# Altium footprint library connectors.PcbLib: 6 footprints
Each footprint in its own frame and in the unit in brackets; x right, y up, seen from the top. Pads: shape width x height; smd on the part's side, far side on the other; paste and mask are expansions set on the pad; w line width, h text height; cw(c..) or ccw(c..) is an arc to the next point about the centre after c.
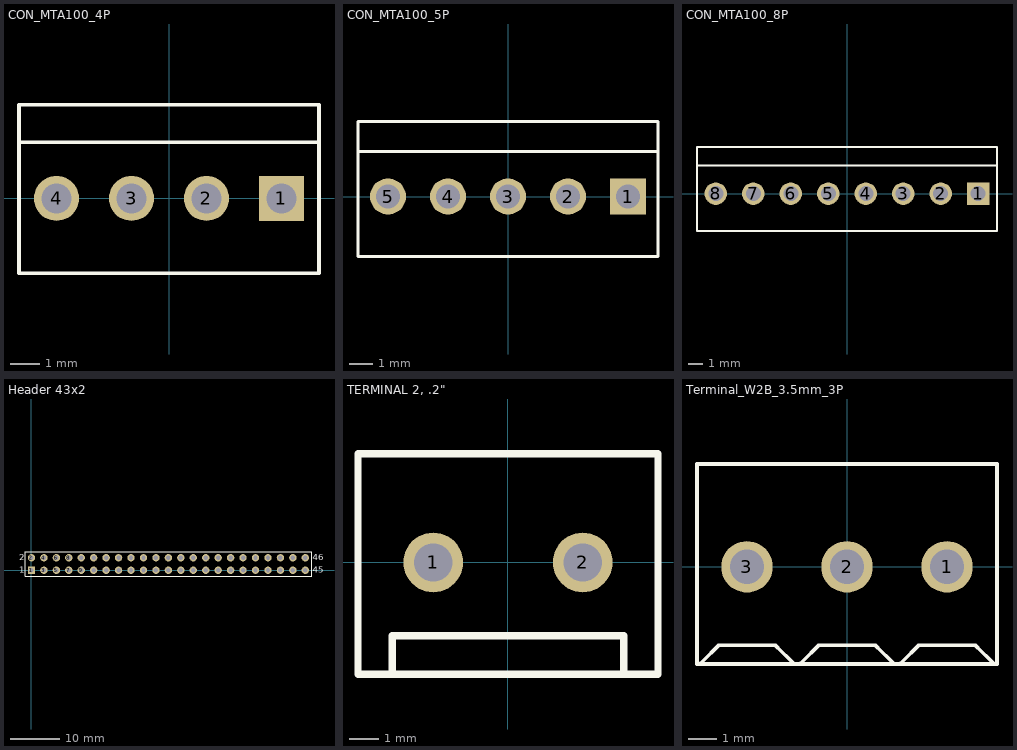
[diagram p0: the footprints below, top view; thin cyan lines are the x and y axes]

## CON_MTA100_4P [mil]
pads (4):
  rect 60x60 hole 40: 1(150,0)
  round 60 hole 40: 2(50,0) 3(-50,0) 4(-150,0)
Top Overlay:
  lines w5: -200,75 200,75 ; -200,-100 -200,125 200,125 200,-100 -200,-100
3D body: height 100, standoff 20, extent 100,-100 200,75
3D body: height 20, standoff 0, extent 100,-100 200,-75
3D body: height 310, standoff 0, extent 100,100 200,125
3D body: height 60, standoff 20, extent 100,75 200,100
3D body: height 395, standoff -140, extent 137.5,-12.5 162.5,12.5
3D body: height 395, standoff -140, extent 37.5,-12.5 62.5,12.5
3D body: height 60, standoff 20, extent 0,75 100,100
3D body: height 310, standoff 0, extent 0,100 100,125
3D body: height 20, standoff 0, extent 0,-100 100,-75
3D body: height 100, standoff 20, extent 0,-100 100,75
3D body: height 395, standoff -140, extent -62.5,-12.5 -37.5,12.5
3D body: height 60, standoff 20, extent -100,75 0,100
3D body: height 310, standoff 0, extent -100,100 0,125
3D body: height 20, standoff 0, extent -100,-100 0,-75
3D body: height 100, standoff 20, extent -100,-100 0,75
3D body: height 395, standoff -140, extent -162.5,-12.5 -137.5,12.5
3D body: height 60, standoff 20, extent -200,75 -100,100
3D body: height 310, standoff 0, extent -200,100 -100,125
3D body: height 20, standoff 0, extent -200,-100 -100,-75
3D body: height 100, standoff 20, extent -200,-100 -100,75

## CON_MTA100_5P [mil]
pads (5):
  rect 60x60 hole 40: 1(200,0)
  round 60 hole 40: 2(100,0) 3(0,0) 4(-100,0) 5(-200,0)
Top Overlay:
  lines w5: -250,75 250,75 ; -250,-100 250,-100 250,125 -250,125 -250,-100
3D body: height 395, standoff -140, extent -212.5,-12.5 -187.5,12.5
3D body: height 60, standoff 20, extent -250,75 -150,100
3D body: height 310, standoff 0, extent -250,100 -150,125
3D body: height 20, standoff 0, extent -250,-100 -150,-75
3D body: height 100, standoff 20, extent -250,-100 -150,75
3D body: height 100, standoff 20, extent -150,-100 -50,75
3D body: height 20, standoff 0, extent -150,-100 -50,-75
3D body: height 310, standoff 0, extent -150,100 -50,125
3D body: height 60, standoff 20, extent -150,75 -50,100
3D body: height 395, standoff -140, extent -112.5,-12.5 -87.5,12.5
3D body: height 100, standoff 20, extent -50,-100 50,75
3D body: height 20, standoff 0, extent -50,-100 50,-75
3D body: height 310, standoff 0, extent -50,100 50,125
3D body: height 60, standoff 20, extent -50,75 50,100
3D body: height 395, standoff -140, extent -12.5,-12.5 12.5,12.5
3D body: height 100, standoff 20, extent 50,-100 150,75
3D body: height 20, standoff 0, extent 50,-100 150,-75
3D body: height 310, standoff 0, extent 50,100 150,125
3D body: height 60, standoff 20, extent 50,75 150,100
3D body: height 395, standoff -140, extent 87.5,-12.5 112.5,12.5
3D body: height 395, standoff -140, extent 187.5,-12.5 212.5,12.5
3D body: height 60, standoff 20, extent 150,75 250,100
3D body: height 310, standoff 0, extent 150,100 250,125
3D body: height 20, standoff 0, extent 150,-100 250,-75
3D body: height 100, standoff 20, extent 150,-100 250,75

## CON_MTA100_8P [mil]
pads (8):
  rect 60x60 hole 40: 1(350,0)
  round 60 hole 40: 2(250,0) 3(150,0) 4(50,0) 5(-50,0) 6(-150,0) 7(-250,0) 8(-350,0)
Top Overlay:
  lines w5: -400,75 400,75 ; -400,-100 400,-100 400,125 -400,125 -400,-100
3D body: height 100, standoff 20, extent 0,-100 100,75
3D body: height 20, standoff 0, extent 0,-100 100,-75
3D body: height 310, standoff 0, extent 0,100 100,125
3D body: height 60, standoff 20, extent 0,75 100,100
3D body: height 395, standoff -140, extent 37.5,-12.5 62.5,12.5
3D body: height 100, standoff 20, extent 100,-100 200,75
3D body: height 20, standoff 0, extent 100,-100 200,-75
3D body: height 310, standoff 0, extent 100,100 200,125
3D body: height 60, standoff 20, extent 100,75 200,100
3D body: height 395, standoff -140, extent 137.5,-12.5 162.5,12.5
3D body: height 100, standoff 20, extent 200,-100 300,75
3D body: height 20, standoff 0, extent 200,-100 300,-75
3D body: height 310, standoff 0, extent 200,100 300,125
3D body: height 60, standoff 20, extent 200,75 300,100
3D body: height 395, standoff -140, extent 237.5,-12.5 262.5,12.5
3D body: height 395, standoff -140, extent 337.5,-12.5 362.5,12.5
3D body: height 60, standoff 20, extent 300,75 400,100
3D body: height 310, standoff 0, extent 300,100 400,125
3D body: height 20, standoff 0, extent 300,-100 400,-75
3D body: height 100, standoff 20, extent 300,-100 400,75
3D body: height 395, standoff -140, extent -62.5,-12.5 -37.5,12.5
3D body: height 60, standoff 20, extent -100,75 0,100
3D body: height 310, standoff 0, extent -100,100 0,125
3D body: height 20, standoff 0, extent -100,-100 0,-75
3D body: height 100, standoff 20, extent -100,-100 0,75
3D body: height 395, standoff -140, extent -162.5,-12.5 -137.5,12.5
3D body: height 60, standoff 20, extent -200,75 -100,100
3D body: height 310, standoff 0, extent -200,100 -100,125
3D body: height 20, standoff 0, extent -200,-100 -100,-75
3D body: height 100, standoff 20, extent -200,-100 -100,75
3D body: height 395, standoff -140, extent -262.5,-12.5 -237.5,12.5
3D body: height 60, standoff 20, extent -300,75 -200,100
3D body: height 310, standoff 0, extent -300,100 -200,125
3D body: height 20, standoff 0, extent -300,-100 -200,-75
3D body: height 100, standoff 20, extent -300,-100 -200,75
3D body: height 395, standoff -140, extent -362.5,-12.5 -337.5,12.5
3D body: height 60, standoff 20, extent -400,75 -300,100
3D body: height 310, standoff 0, extent -400,100 -300,125
3D body: height 20, standoff 0, extent -400,-100 -300,-75
3D body: height 100, standoff 20, extent -400,-100 -300,75

## Header 43x2 [mm] "Header 43 Pos 2 Row"
pads (46):
  rect 1.5x1.5 hole 0.9: 1(0,0)
  round 1.5 hole 0.9: 2(0,2.54) 3(2.54,0) 4(2.54,2.54) 5(5.08,0) 6(5.08,2.54) 7(7.62,0) 8(7.62,2.54) 9(10.16,0) 10(10.16,2.54) 11(12.7,0) 12(12.7,2.54) 13(15.24,0) 14(15.24,2.54) 15(17.78,0) 16(17.78,2.54) 17(20.32,0) 18(20.32,2.54) 19(22.86,0) 20(22.86,2.54) 21(25.4,0) 22(25.4,2.54) 23(27.94,0) 24(27.94,2.54) 25(30.48,0) 26(30.48,2.54) 27(33.02,0) 28(33.02,2.54) 29(35.56,0) 30(35.56,2.54) 31(38.1,0) 32(38.1,2.54) 33(40.64,0) 34(40.64,2.54) 35(43.18,0) 36(43.18,2.54) 37(45.72,0) 38(45.72,2.54) 39(48.26,0) 40(48.26,2.54) 41(50.8,0) 42(50.8,2.54) 43(53.34,0) 44(53.34,2.54) 45(55.88,0) 46(55.88,2.54)
Top Overlay:
  lines w0.2: -1.27,-1.27 -1.27,3.81 57.15,3.81 57.15,-1.27 -1.27,-1.27
  text "45" at 57.404,-0.508 h1.27
  text "46" at 57.404,2.032 h1.27
  text "1" at -2.54,-0.508 h1.27
  text "2" at -2.54,2.032 h1.27

## TERMINAL 2, .2" [mil] "OSTTCXX2126"
pads (2):
  round 80 hole 51.18: 1(-100,0) 2(100,0)
Top Overlay:
  lines w10: -155,-149.65 -155,-98.43 155,-98.43 155,-149.65 ; -200.67,-149.65 -200.67,145.35 200.79,145.35 200.79,-149.65 -200.67,-149.65
3D body: height 393.7, standoff -137.8, extent -200.67,-149.65 201.3,149.57

## Terminal_W2B_3.5mm_3P [mm] "Wire-to-Board Eurostyle Terminal Blocks"
pads (3):
  round 1.8 hole 1.2: 1(3.5,0) 2(0,0) 3(-3.5,0)
Top Overlay:
  lines w0.127: -5.15,-3.4 -5.05,-3.3 ; -1.875,-3.375 -2.05,-3.2 -2.3,-2.95 ; -1.65,-3.4 -1.55,-3.3 ; 1.625,-3.375 1.45,-3.2 1.2,-2.95 ; 1.85,-3.4 1.95,-3.3 ; 5.125,-3.375 4.95,-3.2 4.7,-2.95 ; -5.05,-3.3 -5.05,-3.3 ; -5.05,-3.3 -4.5,-2.75 ; -4.5,-2.75 -2.5,-2.75 ; -4.5,-2.75 -4.5,-2.75 ; -2.5,-2.75 -2.3,-2.95 ; -2.5,-2.75 -2.5,-2.75 ; -2.3,-2.95 -2.3,-2.95 ; -1.55,-3.3 -1.55,-3.3 ; -1.55,-3.3 -1,-2.75 ; -1,-2.75 1,-2.75 ; -1,-2.75 -1,-2.75 ; 1,-2.75 1.2,-2.95 ; 1,-2.75 1,-2.75 ; 1.2,-2.95 1.2,-2.95 ; 1.95,-3.3 2.5,-2.75 ; 1.95,-3.3 1.95,-3.3 ; 2.5,-2.75 2.5,-2.75 ; 2.5,-2.75 4.5,-2.75 ; 4.5,-2.75 4.5,-2.75 ; 4.5,-2.75 4.7,-2.95 ; 4.7,-2.95 4.7,-2.95 ; -5.25,-3.4 5.25,-3.4 5.25,3.6 -5.25,3.6 -5.25,-3.4
3D body: height 5.3, standoff 0, extent 1.75,-2.5 5.25,3.6
3D body: height 5.3, standoff 0, extent 1.75,-3.4 2.25,-2.5
3D body: height 5.3, standoff 0, extent 4.75,-3.4 5.25,-2.5
3D body: height 5.3, standoff 4, extent 1.75,-3.4 5.25,3.6
3D body: height 4, standoff 0, extent 2.5,-2.55 4.5,-2.5
3D body: height 8.3, standoff 5.3, extent 1.75,-1.75 5.25,3.6
3D body: height 8.31, standoff 8.3, extent 2.508,-0.998 4.5,0.998
3D body: height 8, standoff 5.3, extent 1.75,-2 5.25,-1.75
3D body: height 7.5, standoff 5.3, extent 1.75,-2.25 5.25,-2
3D body: height 7, standoff 5.3, extent 1.75,-2.5 5.25,-2.25
3D body: height 6.5, standoff 5.3, extent 1.75,-2.75 5.25,-2.5
3D body: height 6, standoff 5.3, extent 1.75,-3 5.25,-2.75
3D body: height 5.5, standoff 5.3, extent 1.75,-3.25 5.25,-3
3D body: height 5.5, standoff 5.3, extent -1.75,-3.25 1.75,-3
3D body: height 6, standoff 5.3, extent -1.75,-3 1.75,-2.75
3D body: height 6.5, standoff 5.3, extent -1.75,-2.75 1.75,-2.5
3D body: height 7, standoff 5.3, extent -1.75,-2.5 1.75,-2.25
3D body: height 7.5, standoff 5.3, extent -1.75,-2.25 1.75,-2
3D body: height 8, standoff 5.3, extent -1.75,-2 1.75,-1.75
3D body: height 8.31, standoff 8.3, extent -0.992,-0.998 1,0.998
3D body: height 8.3, standoff 5.3, extent -1.75,-1.75 1.75,3.6
3D body: height 4, standoff 0, extent -1,-2.55 1,-2.5
3D body: height 5.3, standoff 4, extent -1.75,-3.4 1.75,3.6
3D body: height 5.3, standoff 0, extent 1.25,-3.4 1.75,-2.5
3D body: height 5.3, standoff 0, extent -1.75,-3.4 -1.25,-2.5
3D body: height 5.3, standoff 0, extent -1.75,-2.5 1.75,3.6
3D body: height 5.5, standoff 5.3, extent -5.25,-3.25 -1.75,-3
3D body: height 6, standoff 5.3, extent -5.25,-3 -1.75,-2.75
3D body: height 6.5, standoff 5.3, extent -5.25,-2.75 -1.75,-2.5
3D body: height 7, standoff 5.3, extent -5.25,-2.5 -1.75,-2.25
3D body: height 7.5, standoff 5.3, extent -5.25,-2.25 -1.75,-2
3D body: height 8, standoff 5.3, extent -5.25,-2 -1.75,-1.75
3D body: height 8.31, standoff 8.3, extent -4.492,-0.998 -2.5,0.998
3D body: height 8.3, standoff 5.3, extent -5.25,-1.75 -1.75,3.6
3D body: height 4, standoff 0, extent -4.5,-2.55 -2.5,-2.5
3D body: height 5.3, standoff 4, extent -5.25,-3.4 -1.75,3.6
3D body: height 5.3, standoff 0, extent -2.25,-3.4 -1.75,-2.5
3D body: height 5.3, standoff 0, extent -5.25,-3.4 -4.75,-2.5
3D body: height 5.3, standoff 0, extent -5.25,-2.5 -1.75,3.6